# EAGLE library part BRUSHLESSMOTOR_CON (library FaBo-Connetor)
RCCAR brushless motor Signal
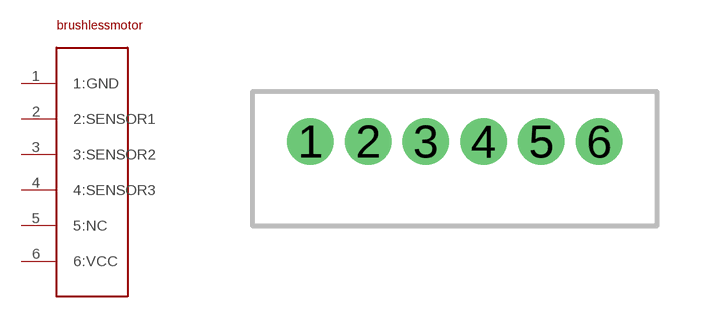
[diagram p24: symbol with the pads of B6B-ZR; footprint B6B-ZR]

Designator prefix -

## BRUSHLESSMOTOR_CON  [B6B-ZR]
1  1:GND
2  2:SENSOR1
3  3:SENSOR2
4  4:SENSOR3
5  5:NC
6  6:VCC

## Footprint B6B-ZR (pad centres in mm)
drill 0.7 pad 1.016: 1 -3.75,0; 2 -2.25,0; 3 -0.75,0; 4 0.75,0; 5 2.25,0; 6 3.75,0